# EAGLE library part 78L05SMD (library stabilizatory)
VOLTAGE REGULATOR
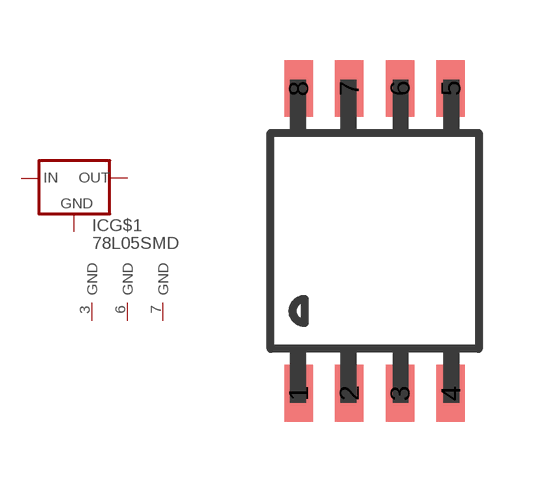
[diagram p0: symbol with the pads of SO8; footprint SO8]

Designator prefix IC; gates G$1=78XX G$2=GND G$3=GND G$4=GND

## 78L05SMD  [SO8]
1  G$1:OUT  pas
2  G$1:GND  in
3  G$2:GND  pwr
6  G$3:GND  pwr
7  G$4:GND  pwr
8  G$1:IN  in

## Footprint SO8 (pad centres in mm)
SO8 Package
smd 0.711 x 1.422: 1 -1.905,-3.81; 2 -0.635,-3.81; 3 0.635,-3.81; 4 1.905,-3.81; 5 1.905,3.81; 6 0.635,3.81; 7 -0.635,3.81; 8 -1.905,3.81